# Altium schematic symbol library XPEBRD-L1-0000-00902.SchLib: 1 symbol
Pins are listed as number, name and electrical type; pins without a type are passive.

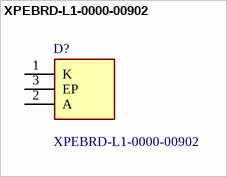
[diagram p0: symbol XPEBRD-L1-0000-00902]

## XPEBRD-L1-0000-00902
designator D?
High Power LEDs - Single Colour RED, 80.6lm; Manufacturer_Name: CREE LED; Geometry.Height: 2.39mm; Mouser Part Number: 941-XPEBRDL100000902; Mouser Price/Stock: https://www.mouser.co.uk/ProductDetail/Cree-LED/XPEBRD-L1-0000-00902?qs=k72kBymvut%252BVpwGSaf240A%3D%3D; Manufacturer_Part_Number: XPEBRD-L1-0000-00902; Datasheet Link: https://www.cree.com/led-components/media/documents/XLampXPE2.pdf
footprint XPEBRDL1000000902
pins: 1 K, 2 A, 3 EP